# Altium schematic symbol library nsi1200.SchLib: 1 symbol
Pins are listed as number, name and electrical type; pins without a type are passive.

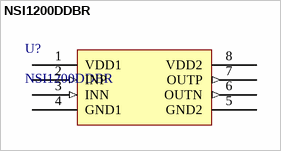
[diagram p0: symbol NSI1200DDBR]

## NSI1200DDBR
designator U?
High Reliability Reinforced Isolated Amplifier; Manufacturer: Novosense; Manufacturer Part Number: NSI1200DDBR; ComponentLink1Description: Datasheet; ComponentLink1URL: https://file.elecfans.com/web2/M00/63/D8/poYBAGMEo2GAVfdLABzacvfTaPY750.pdf
footprint NSI1200DDBR
pins: 1 VDD1 (power), 2 INP (in), 3 INN (in), 4 GND1 (power), 5 GND2 (power), 6 OUTN (out), 7 OUTP (out), 8 VDD2 (power)